# Altium schematic symbol library DESD3V3S1BL-7B.SchLib: 2 symbols
Pins are listed as number, name and electrical type; pins without a type are passive.

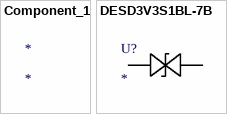
[diagram p0: symbols Component_1 to DESD3V3S1BL-7B]

## Component_1
designator *

## DESD3V3S1BL-7B
designator U?
No Description Available; Mfr_Name: Diodes Inc
footprint X1-DFN1006-2_RH_DIO
pins: 1, 2